# EAGLE library part MC14022BDG (library on-semiconductor-01)
Octal Counter
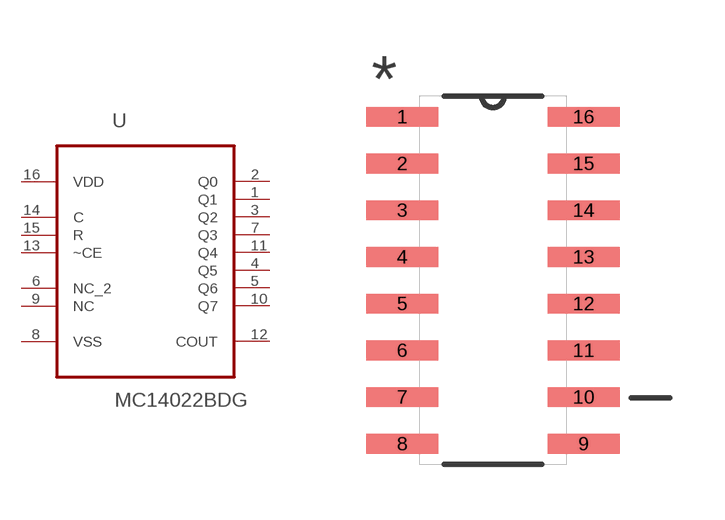
[diagram p213: symbol with the pads of SOIC127P600X175-16N; footprint SOIC127P600X175-16N]

Designator prefix U

## MC14022BDG (MPN: MC14022BDG; OC_FARNELL: -; OC_NEWARK: 26K3931; PACKAGE: SOIC-16; SUPPLIER: ON Semiconductor)  [SOIC127P600X175-16N]
1  Q1  out
2  Q0  out
3  Q2  out
4  Q5  out
5  Q6  out
6  NC_2  nc
7  Q3  out
8  VSS  pwr
9  NC  nc
10  Q7  out
11  Q4  out
12  COUT  out
13  ~CE  in
14  C  in
15  R  in
16  VDD  pwr

## Footprint SOIC127P600X175-16N (pad centres in mm)
smd 1.956 x 0.533: 1 -2.464,4.445; 2 -2.464,3.175; 3 -2.464,1.905; 4 -2.464,0.635; 5 -2.464,-0.635; 6 -2.464,-1.905; 7 -2.464,-3.175; 8 -2.464,-4.445; 9 2.464,-4.445; 10 2.464,-3.175; 11 2.464,-1.905; 12 2.464,-0.635; 13 2.464,0.635; 14 2.464,1.905; 15 2.464,3.175; 16 2.464,4.445